# Altium footprint library hk32f-g-005-hs.PcbLib: 1 footprints
Each footprint in its own frame and in the unit in brackets; x right, y up, seen from the top. Pads: shape width x height; smd on the part's side, far side on the other; paste and mask are expansions set on the pad; w line width, h text height; cw(c..) or ccw(c..) is an arc to the next point about the centre after c.
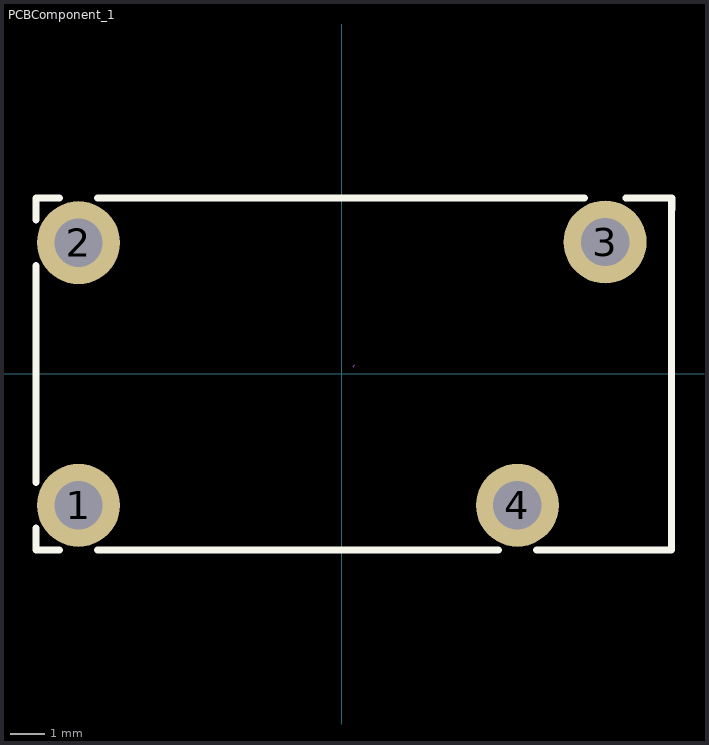
[diagram p0: the footprint, top view; thin cyan lines are the x and y axes]

## PCBComponent_1 [mm]
pads (4):
  round 2.4 hole 1.4: 1(-7.62,-3.81) 2(-7.62,3.79) 3(7.62,3.81) 4(5.08,-3.81)
Top Overlay:
  lines w0.2: -8.857,-4.472 -8.857,-5.1 -8.171,-5.1 ; -8.857,-3.148 -8.857,3.128 ; -8.857,4.451 -8.857,5.08 ; -8.81,5.08 -8.17,5.08 ; -7.07,5.08 7.024,5.08 ; -7.069,-5.1 4.529,-5.1 ; 5.631,-5.1 9.543,-5.1 ; 8.216,5.08 9.56,5.08 ; 9.543,-5.08 9.543,5.08 ; 9.55,4.75 9.55,5.08
Mechanical 15:
  lines w0.003: 0.326,0.2 0.377,0.251
3D body "66f7846_t77v1d10-12.stp": height 14.85, standoff -3.85, extent -9.1,-5.1 9.1,5.1